# Altium footprint library Panasonic.PcbLib: 3 footprints
Each footprint in its own frame and in the unit in brackets; x right, y up, seen from the top. Pads: shape width x height; smd on the part's side, far side on the other; paste and mask are expansions set on the pad; w line width, h text height; cw(c..) or ccw(c..) is an arc to the next point about the centre after c.
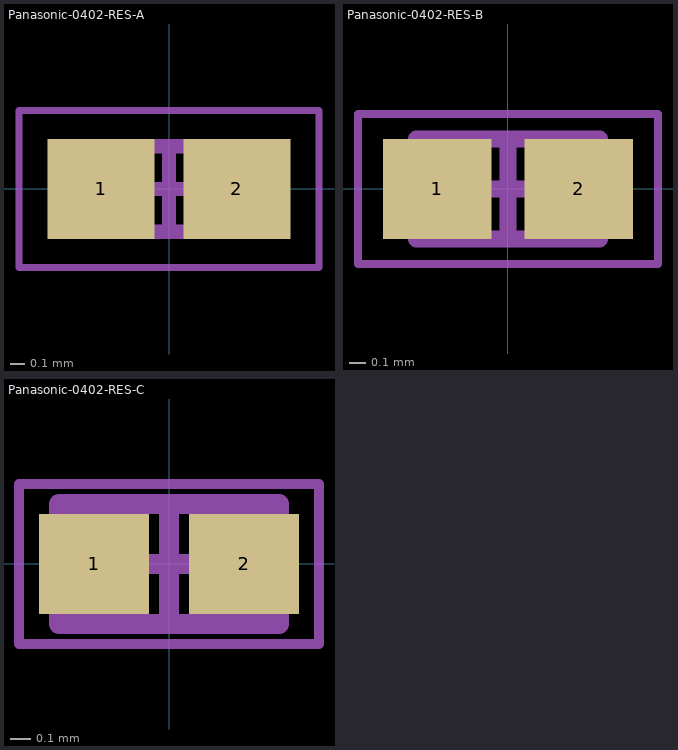
[diagram p0: the footprints below, top view; thin cyan lines are the x and y axes]

## Panasonic-0402-RES-A [mm] "Chip Resistor, 2-Leads, Body 1.00x0.53mm, IPC Low Density"
height 0.4
pads (2):
  rect 0.75x0.7 smd: 1(-0.475,0) 2(0.475,0)
Mechanical 13:
  lines w0.1: -0.55,-0.3 0.55,-0.3 0.55,0.3 -0.55,0.3 -0.55,-0.3
Mechanical 15:
  lines w0.05: -1.05,-0.55 1.05,-0.55 1.05,0.55 -1.05,0.55 -1.05,-0.55
  lines w0.1: -0.3,0 0.3,0 ; 0,-0.3 0,0.3
3D body "Panasonic-0402-RES-A.step": height 0.4, standoff 0, extent -0.55,-0.3 0.55,0.3

## Panasonic-0402-RES-B [mm] "Chip Resistor, 2-Leads, Body 1.00x0.53mm, IPC Medium Density"
height 0.4
pads (2):
  rect 0.65x0.6 smd: 1(-0.425,0) 2(0.425,0)
Mechanical 13:
  lines w0.1: -0.55,-0.3 0.55,-0.3 0.55,0.3 -0.55,0.3 -0.55,-0.3
Mechanical 15:
  lines w0.05: -0.9,-0.45 0.9,-0.45 0.9,0.45 -0.9,0.45 -0.9,-0.45
  lines w0.1: -0.3,0 0.3,0 ; 0,-0.3 0,0.3
3D body "Panasonic-0402-RES-B.step": height 0.4, standoff 0, extent -0.55,-0.3 0.55,0.3

## Panasonic-0402-RES-C [mm] "Chip Resistor, 2-Leads, Body 1.00x0.53mm, IPC High Density"
height 0.4
pads (2):
  rect 0.55x0.5 smd: 1(-0.375,0) 2(0.375,0)
Mechanical 13:
  lines w0.1: -0.55,-0.3 0.55,-0.3 0.55,0.3 -0.55,0.3 -0.55,-0.3
Mechanical 15:
  lines w0.05: -0.75,-0.4 0.75,-0.4 0.75,0.4 -0.75,0.4 -0.75,-0.4
  lines w0.1: -0.3,0 0.3,0 ; 0,-0.3 0,0.3
3D body "Panasonic-0402-RES-C.step": height 0.4, standoff 0, extent -0.55,-0.3 0.55,0.3